# Altium schematic symbol library WCH-CH211C.SchLib: 1 symbol
Pins are listed as number, name and electrical type; pins without a type are passive.

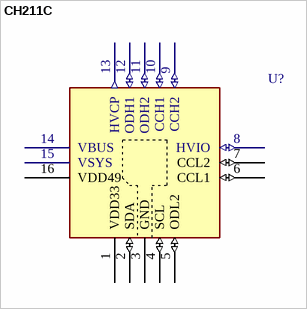
[diagram p0: symbol CH211C]

## CH211C
designator U?
pins: 1 VDD33 (power), 2 SDA (io), 3 GND (power), 4 SCL (io), 5 ODL2 (io), 6 CCL1 (io), 7 CCL2 (io), 8 HVIO (io), 9 CCH2 (io), 10 CCH1 (io), 11 ODH2 (io), 12 ODH1 (io), 13 HVCP (out), 14 VBUS (power), 15 VSYS (power), 16 VDD49 (power)